# Altium footprint library SIP.PcbLib: 21 footprints (part 1 of 2)
Each footprint in its own frame and in the unit in brackets; x right, y up, seen from the top. Pads: shape width x height; smd on the part's side, far side on the other; paste and mask are expansions set on the pad; w line width, h text height; cw(c..) or ccw(c..) is an arc to the next point about the centre after c.
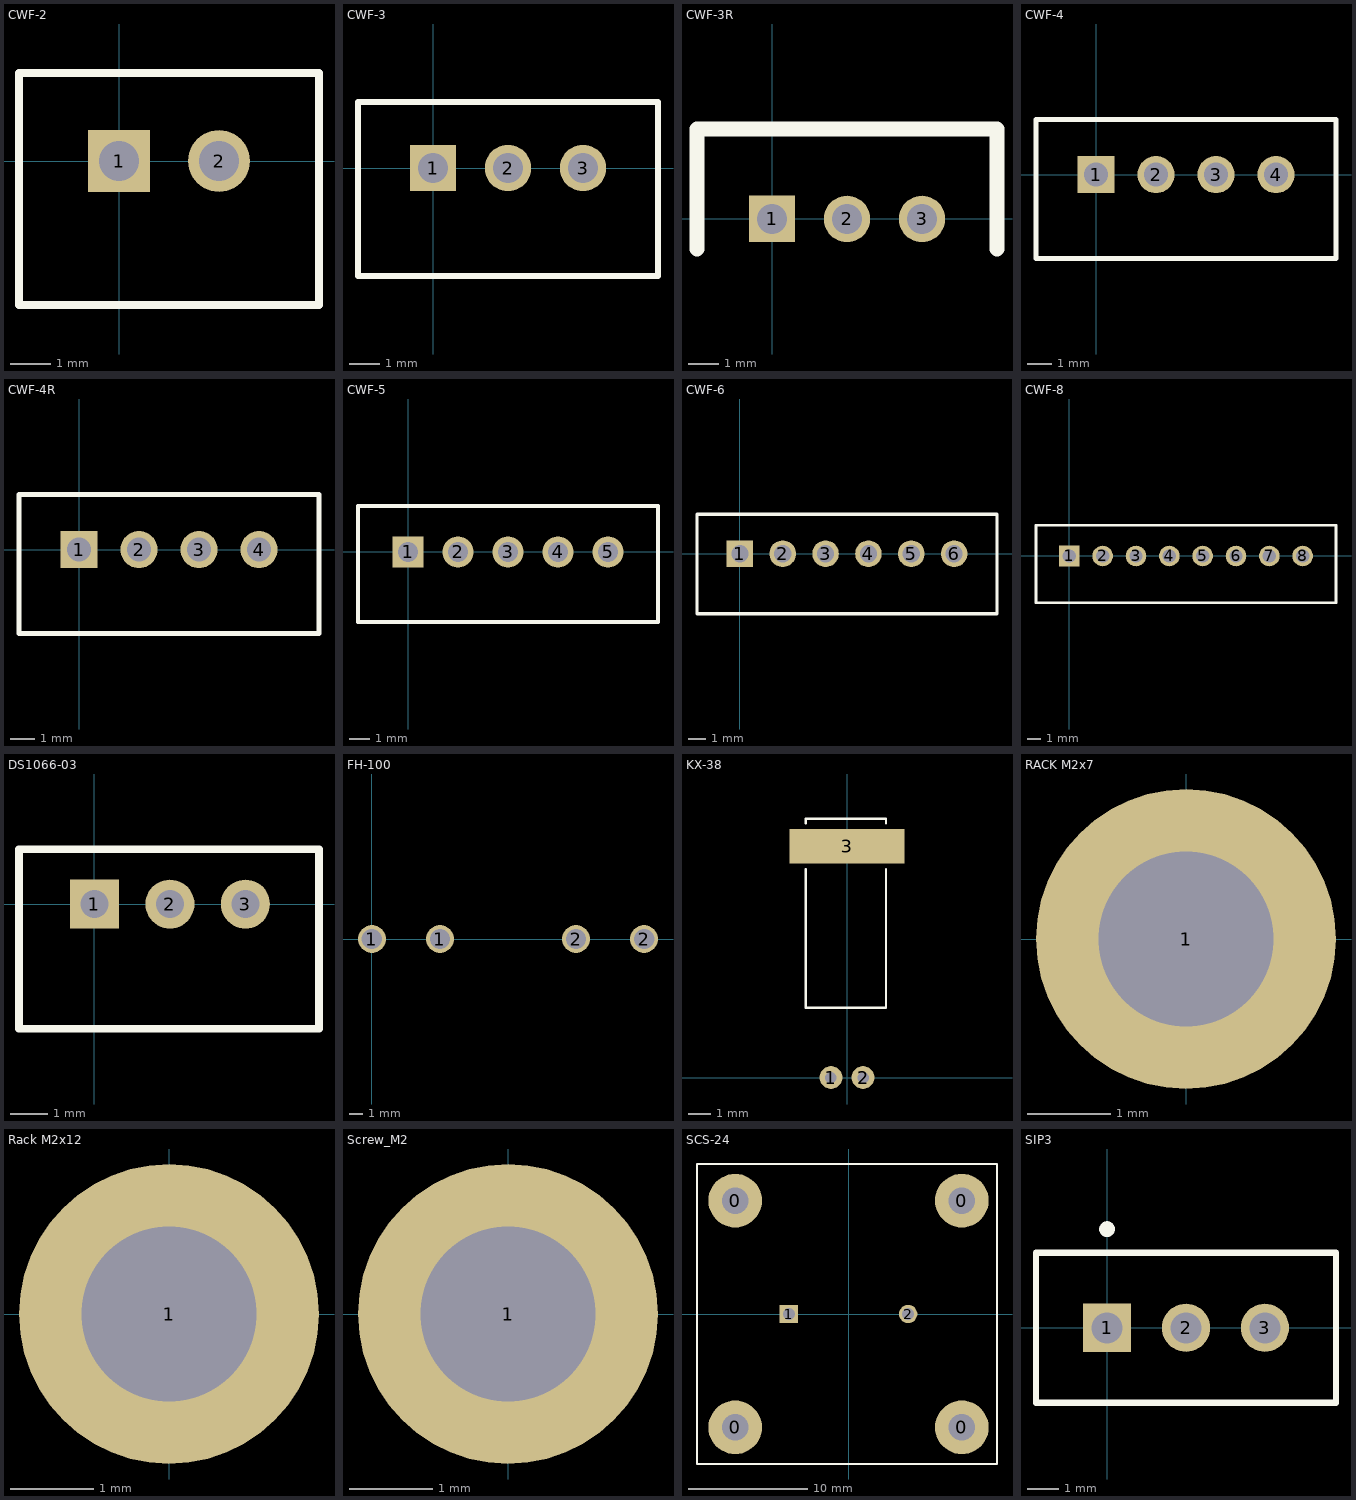
[diagram p0: the footprints below, top view; thin cyan lines are the x and y axes]

## CWF-2 [mm]
pads (2):
  rect 1.55x1.55 hole 1: 1(0,0)
  round 1.55 hole 1: 2(2.5,0)
Top Overlay:
  lines w0.2: -2.5,-3.6 -2.5,2.2 5,2.2 5,-3.6 -2.5,-3.6
3D body: height 7, standoff -3.5, extent -2.5,-3.55 5,2.2

## CWF-3 [mm]
pads (3):
  rect 1.55x1.55 hole 1: 1(0,0)
  round 1.55 hole 1: 2(2.5,0) 3(5,0)
Top Overlay:
  lines w0.2: -2.5,-3.6 7.5,-3.6 7.5,2.2 -2.5,2.2 -2.5,-3.6
3D body: height 7, standoff -3.5, extent -2.5,-3.55 7.5,2.2

## CWF-3R [mm]
pads (3):
  rect 1.55x1.55 hole 1: 1(0,0)
  round 1.55 hole 1: 2(2.5,0) 3(5,0)
Top Overlay:
  lines w0.5: -2.5,-1 -2.5,3 7.5,3 7.5,-1
3D body: height 5.75, standoff -3.4, extent -2.5,-9.15 7.5,2.95

## CWF-4 [mm]
pads (4):
  rect 1.55x1.55 hole 1: 1(0,0)
  round 1.55 hole 1: 2(2.5,0) 3(5,0) 4(7.5,0)
Top Overlay:
  lines w0.2: -2.5,-3.5 10,-3.5 10,2.3 -2.5,2.3 -2.5,-3.5
3D body: height 7, standoff -3.5, extent -2.4,-3.575 10,2.175

## CWF-4R [mm]
pads (4):
  rect 1.55x1.55 hole 1: 1(0,0)
  round 1.55 hole 1: 2(2.5,0) 3(5,0) 4(7.5,0)
Top Overlay:
  lines w0.2: -2.5,-3.5 10,-3.5 10,2.3 -2.5,2.3 -2.5,-3.5
3D body: height 5.75, standoff -3.4, extent -2.4,-9.25 10,2.25

## CWF-5 [mm]
pads (5):
  rect 1.55x1.55 hole 1: 1(0,0)
  round 1.55 hole 1: 2(2.5,0) 3(5,0) 4(7.5,0) 5(10,0)
Top Overlay:
  lines w0.2: -2.5,-3.5 -2.5,2.3 12.5,2.3 12.5,-3.5 -2.5,-3.5
3D body: height 7, standoff -3.5, extent -2.5,-3.5 12.5,2.25

## CWF-6 [mm]
pads (6):
  rect 1.55x1.55 hole 1: 1(0,0)
  round 1.55 hole 1: 2(2.5,0) 3(5,0) 4(7.5,0) 5(10,0) 6(12.5,0)
Top Overlay:
  lines w0.2: -2.5,-3.5 15,-3.5 15,2.3 -2.5,2.3 -2.5,-3.5
3D body: height 7, standoff -3.5, extent -2.5,-3.55 15,2.2

## CWF-8 [mm]
pads (8):
  rect 1.55x1.55 hole 1: 1(0,0)
  round 1.55 hole 1: 2(2.5,0) 3(5,0) 4(7.5,0) 5(10,0) 6(12.5,0) 7(15,0) 8(17.5,0)
Top Overlay:
  lines w0.2: -2.5,-3.5 20,-3.5 20,2.3 -2.5,2.3 -2.5,-3.5
3D body: height 7, standoff -3.5, extent -2.5,-3.55 20,2.2

## DS1066-03 [mm]
pads (3):
  rect 1.3x1.3 hole 0.75: 1(0,0)
  round 1.3 hole 0.75: 2(2,0) 3(4,0)
Top Overlay:
  lines w0.2: -2,-3.3 5.95,-3.3 5.95,1.45 -2,1.45 -2,-3.3
3D body: height 6.2, standoff -2.7, extent -1.95,-3.35 5.95,1.45

## FH-100 [mm]
pads (4):
  round 2.05 hole 1.5: 1(0,0) 1(5,0) 2(15,0) 2(20,0)
3D body: height 9.99, standoff -3.5, extent -0.4,-3.5 20.4,3.5

## KX-38 [mm]
pads (3):
  round 1 hole 0.5: 1(-0.7,0) 2(0.7,0)
  rect 5x1.5 smd: 3(0,10.1)
Top Overlay:
  lines w0.1: -1.8,9.1 -1.8,3.048 0,3.048 1.7,3.048 1.7,9.1 ; -1.8,11.1 -1.8,11.3 1.7,11.3 1.7,11.1
3D body: height 3.1, standoff -0.1, extent -1.8,0.512 1.65,11.288

## RACK M2x7 [mm]
pads (1):
  round 3.6 hole 2.1: 1(0,0)
3D body: height 7, standoff 0, extent -1.6,-1.599 1.6,1.599
3D body: height 5.02, standoff -2.33, extent -1.8,-1.799 1.8,1.8

## Rack M2x12 [mm]
pads (1):
  round 3.6 hole 2.1: 1(0,0)
3D body: height 5.02, standoff -2.33, extent -1.8,-1.799 1.8,1.8
3D body: height 12, standoff 0, extent -1.6,-1.599 1.6,1.599

## Screw_M2 [mm]
pads (1):
  round 3.6 hole 2.1: 1(0,0)
3D body: height 5.02, standoff -2.33, extent -1.8,-1.799 1.8,1.8

## SCS-24 [mm]
pads (6):
  round 4.5 hole 2.2: 0(-9.5,-9.5) 0(-9.5,9.5) 0(9.5,-9.5) 0(9.5,9.5)
  rect 1.55x1.55 hole 1: 1(-5,0)
  round 1.55 hole 1: 2(5,0)
Top Overlay:
  lines w0.2: -12.7,-12.573 12.446,-12.573 12.446,12.573 -12.7,12.573 -12.7,-12.573
3D body: height 12.01, standoff -3.5, extent -12.573,-12.423 12.527,12.677

## SIP3 [mm]
pads (3):
  rect 1.55x1.55 hole 1: 1(0,0)
  round 1.55 hole 1: 2(2.54,0) 3(5.08,0)
Top Overlay:
  circle w0.254: c0,3.175 r0.127
  lines w0.2: -2.286,-2.413 -2.286,2.413 7.366,2.413 7.366,-2.413 -2.286,-2.413
3D body: height 11.5, standoff -4.1, extent -2.21,-2.437 7.29,2.413